# EAGLE library part NC7WZ07 (library atmega328pb_tqfn)
Ultra-high speed dual open-drain output buffer (non-inverting)
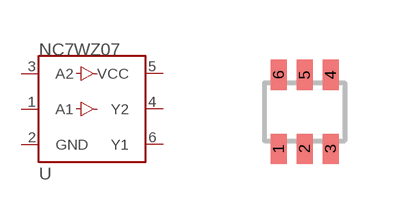
[diagram p43: symbol with the pads of SC70-6; footprint SC70-6]

Designator prefix -

## NC7WZ07  [SC70-6]
1  A1
2  GND
3  A2
4  Y2
5  VCC
6  Y1

## Footprint SC70-6 (pad centres in mm)
smd 0.4 x 0.75: 1 -0.65,-0.925; 2 0,-0.925; 3 0.65,-0.925; 4 0.65,0.925; 5 0,0.925; 6 -0.65,0.925